# Altium integrated library Analog Devices Operational Amplifiers.IntLib: 2102 symbols (part 5 of 70)
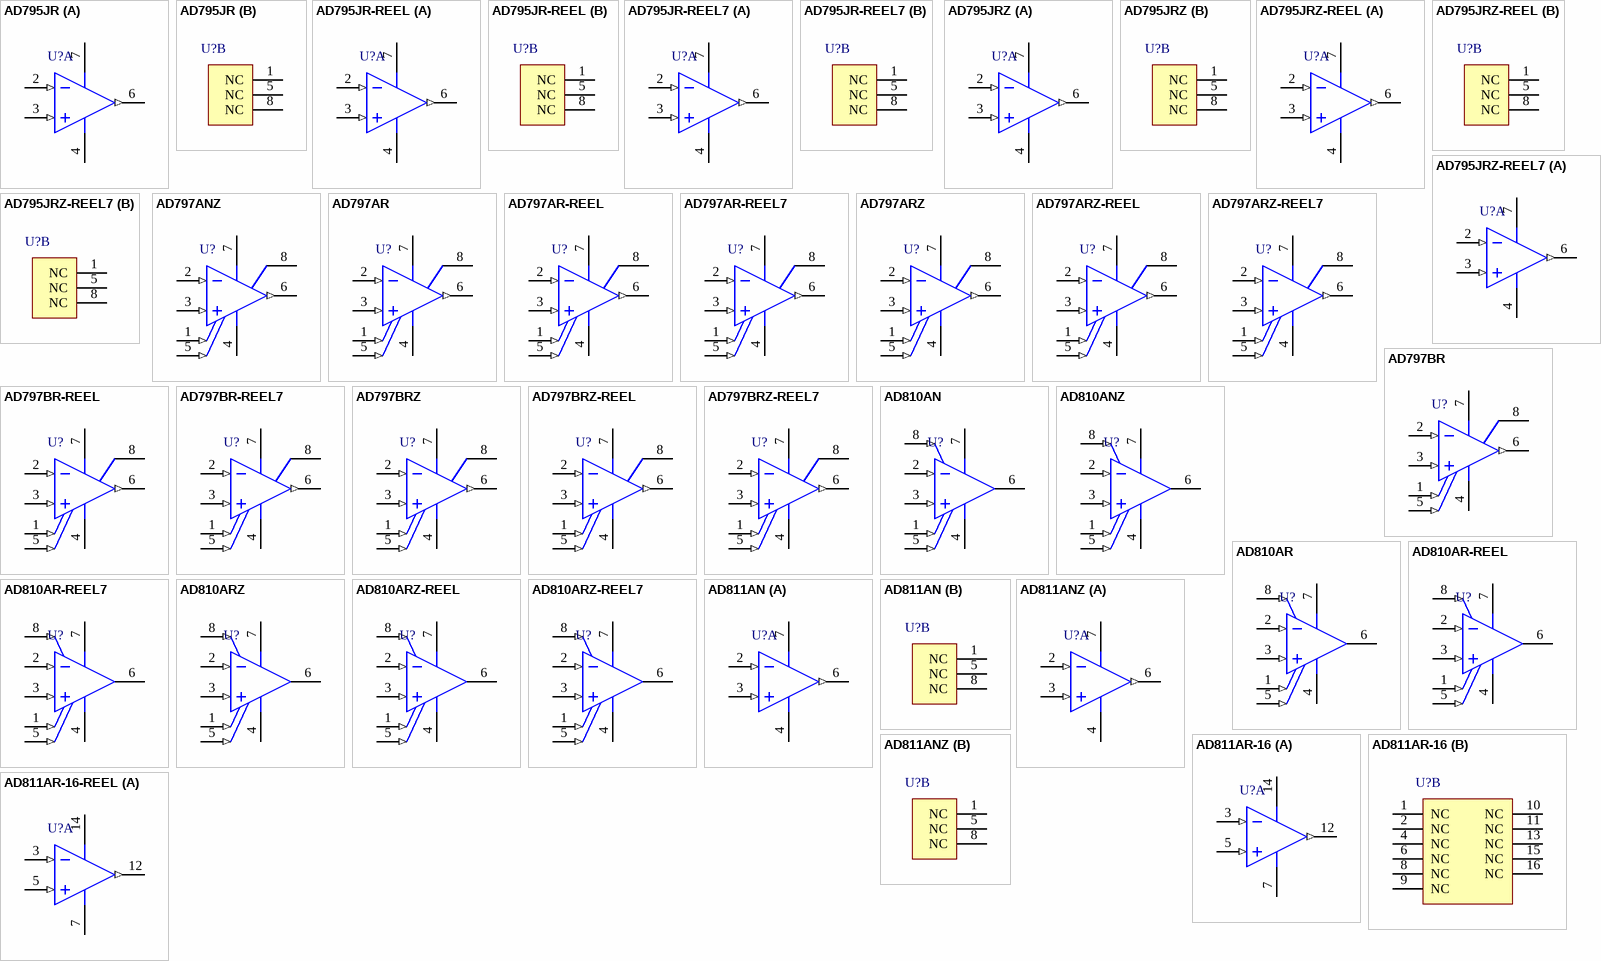
[diagram p118: symbols AD795JR to AD811AR-16-REEL]

## AD810ARZ-REEL
designator U?
Single Channel Low Power Operational Amplifier, 80 MHz BW, 1 KV/us SR, Industrial, 8-pin SOIC (R-8), Reel; Generic Part Number: AD810; Manufacturer: Analog Devices; PartNumber: AD810ARZ-REEL; Amplifiers Per Package: 1; Input Bias Current: 2uA; Input Offset Voltage: 1.5mV; Iq/Amp: 8mA; Slew Rate: 1KV/us; Small Signal Bandwidth: 80MHz; V Span Max: 36V; V Span Min: 5V; DatasheetVersion: Rev. A; PackageVersion: 060506-A; PackageReference: R-8; PackageDescription: 8-Pin Standard Small Outline Package, Body 3.9 x 4.9 mm, Pitch 1.27 mm; Supplier 1: Digi-Key; Supplier Part Number 1: AD810ARZ-REEL-ND; Supplier 2: Newark; Supplier Part Number 2: 59K6366; Mounting Technology: Surface Mount; Code_JEDEC: MS-012-AA; ComponentLink1Description: Manufacturer URL; ComponentLink1URL: http://www.analog.com/en/index.html; ComponentLink2Description: Datasheet; ComponentLink2URL: http://www.analog.com/static/imported-files/data_sheets/AD810.pdf; ComponentLink3Description: Package Specification; ComponentLink3URL: http://www.analog.com/static/imported-files/packages/PKG_PDF/SOIC_Narrow%20(R)/R_8.pdf
footprint ADI-R-8_N (SOIC, 8-Leads, Body 4.9x3.9mm, Pitch 1.27mm, IPC Medium Density)
footprint ADI-R-8_L (SOIC, 8-Leads, Body 4.9x3.9mm, Pitch 1.27mm, IPC High Density)
footprint ADI-R-8_M (SOIC, 8-Leads, Body 4.9x3.9mm, Pitch 1.27mm, IPC Low Density)
pins: 1 OFFSET NULL (in), 2 -IN (in), 3 +IN (in), 4 -VS (power), 5 OFFSET NULL (in), 6 OUT (hiz), 7 +VS (power), 8 ~{DISABLE} (in)

## AD810ARZ-REEL7
designator U?
Single Channel Low Power Operational Amplifier, 80 MHz BW, 1 KV/us SR, Industrial, 8-pin SOIC (R-8), Reel; Generic Part Number: AD810; Manufacturer: Analog Devices; PartNumber: AD810ARZ-REEL7; Amplifiers Per Package: 1; Input Bias Current: 2uA; Input Offset Voltage: 1.5mV; Iq/Amp: 8mA; Slew Rate: 1KV/us; Small Signal Bandwidth: 80MHz; V Span Max: 36V; V Span Min: 5V; DatasheetVersion: Rev. A; PackageVersion: 060506-A; PackageReference: R-8; PackageDescription: 8-Pin Standard Small Outline Package, Body 3.9 x 4.9 mm, Pitch 1.27 mm; Supplier 1: Digi-Key; Supplier Part Number 1: AD810ARZ-REEL7TR-ND; Supplier 2: Digi-Key; Supplier Part Number 2: AD810ARZ-REEL7CT-ND; Supplier 3: Digi-Key; Supplier Part Number 3: AD810ARZ-REEL7DKR-ND; Supplier 4: Newark; Supplier Part Number 4: 59K6367; Mounting Technology: Surface Mount; Code_JEDEC: MS-012-AA; ComponentLink1Description: Manufacturer URL; ComponentLink1URL: http://www.analog.com/en/index.html; ComponentLink2Description: Datasheet; ComponentLink2URL: http://www.analog.com/static/imported-files/data_sheets/AD810.pdf; ComponentLink3Description: Package Specification; ComponentLink3URL: http://www.analog.com/static/imported-files/packages/PKG_PDF/SOIC_Narrow%20(R)/R_8.pdf
footprint ADI-R-8_N (SOIC, 8-Leads, Body 4.9x3.9mm, Pitch 1.27mm, IPC Medium Density)
footprint ADI-R-8_L (SOIC, 8-Leads, Body 4.9x3.9mm, Pitch 1.27mm, IPC High Density)
footprint ADI-R-8_M (SOIC, 8-Leads, Body 4.9x3.9mm, Pitch 1.27mm, IPC Low Density)
pins: 1 OFFSET NULL (in), 2 -IN (in), 3 +IN (in), 4 -VS (power), 5 OFFSET NULL (in), 6 OUT (hiz), 7 +VS (power), 8 ~{DISABLE} (in)

## AD811AN
designator U?
Single Channel Low Distortion Operational Amplifier, 140 MHz BW, 2.5 KV/us SR, Industrial, 8-pin DIP (N-8), Tube; Generic Part Number: AD811; Manufacturer: Analog Devices; PartNumber: AD811AN; Amplifiers Per Package: 1; Input Bias Current: 2uA; Input Offset Voltage: 500uV; Iq/Amp: 16mA; Small Signal Bandwidth: 140MHz; V Span Max: 36V; V Span Min: 9V; DatasheetVersion: Rev. E; PackageVersion: 070606-A; PackageReference: N-8; PackageDescription: 8-Pin Plastic Dual In-Line Package, Row spacing 7.62 mm, Pitch 2.54 mm; Supplier 1: Digi-Key; Supplier Part Number 1: AD811AN-ND; Slew Rate: 2.5KV/us; Mounting Technology: Through Hole; Code_JEDEC: MS-001; ComponentLink1Description: Manufacturer URL; ComponentLink1URL: http://www.analog.com/en/index.html; ComponentLink2Description: Datasheet; ComponentLink2URL: http://www.analog.com/static/imported-files/data_sheets/AD811.pdf; ComponentLink3Description: Package Specification; ComponentLink3URL: http:/www.analog.com/static/imported-files/packages/PKG_PDF/PDIP(N)/N_8.pdf
footprint ADI-N-8 (DIP, 8-Leads, Body 9.59x6.6mm, Pitch 2.54mm)
part A pins: 2 -IN (in), 3 +IN (in), 4 -VS (power), 6 OUT (out), 7 +VS (power)
part B pins: 1 NC, 5 NC, 8 NC

## AD811ANZ
designator U?
Single Channel Low Distortion Operational Amplifier, 140 MHz BW, 2.5 KV/us SR, Industrial, 8-pin DIP (N-8), Tube; Generic Part Number: AD811; Manufacturer: Analog Devices; PartNumber: AD811ANZ; Amplifiers Per Package: 1; Input Bias Current: 2uA; Input Offset Voltage: 500uV; Iq/Amp: 16mA; Small Signal Bandwidth: 140MHz; V Span Max: 36V; V Span Min: 9V; DatasheetVersion: Rev. E; PackageVersion: 070606-A; PackageReference: N-8; PackageDescription: 8-Pin Plastic Dual In-Line Package, Row spacing 7.62 mm, Pitch 2.54 mm; Supplier 1: Digi-Key; Supplier Part Number 1: AD811ANZ-ND; Supplier 2: Farnell; Supplier Part Number 2: 9603786; Supplier 3: Newark; Supplier Part Number 3: 58K5191; Slew Rate: 2.5KV/us; Mounting Technology: Through Hole; Code_JEDEC: MS-001; ComponentLink1Description: Manufacturer URL; ComponentLink1URL: http://www.analog.com/en/index.html; ComponentLink2Description: Datasheet; ComponentLink2URL: http://www.analog.com/static/imported-files/data_sheets/AD811.pdf; ComponentLink3Description: Package Specification; ComponentLink3URL: http:/www.analog.com/static/imported-files/packages/PKG_PDF/PDIP(N)/N_8.pdf
footprint ADI-N-8 (DIP, 8-Leads, Body 9.59x6.6mm, Pitch 2.54mm)
part A pins: 2 -IN (in), 3 +IN (in), 4 -VS (power), 6 OUT (out), 7 +VS (power)
part B pins: 1 NC, 5 NC, 8 NC

## AD811AR-16
designator U?
Single Channel Low Distortion Operational Amplifier, 140 MHz BW, 2.5 KV/us SR, Industrial, 16-pin SOIC (RW-16), Tube; Generic Part Number: AD811; Manufacturer: Analog Devices; PartNumber: AD811AR-16; Amplifiers Per Package: 1; Input Bias Current: 2uA; Input Offset Voltage: 500uV; Iq/Amp: 16mA; Small Signal Bandwidth: 140MHz; V Span Max: 36V; V Span Min: 9V; DatasheetVersion: Rev. E; PackageVersion: 032707-B; PackageReference: RW-16; PackageDescription: 16-Pin Standard Small Outline Package, Body 10.3 x 7.5 mm, Pitch 1.27 mm; Supplier 1: Digi-Key; Supplier Part Number 1: AD811AR-16-ND; Slew Rate: 2.5KV/us; Mounting Technology: Surface Mount; Code_JEDEC: MS-013-AA; ComponentLink1Description: Manufacturer URL; ComponentLink1URL: http://www.analog.com/en/index.html; ComponentLink2Description: Datasheet; ComponentLink2URL: http://www.analog.com/static/imported-files/data_sheets/AD811.pdf; ComponentLink3Description: Package Specification; ComponentLink3URL: http://www.analog.com/static/imported-files/packages/PKG_PDF/SOIC_WIDE%20%28RW%29/RW_16.pdf
footprint ADI-RW-16_N (SOIC, 16-Leads, Body 10.3x7.5mm, Pitch 1.27mm,IPC Medium Density)
footprint ADI-RW-16_L (SOIC, 16-Leads, Body 10.3x7.5mm, Pitch 1.27mm, IPC High Density)
footprint ADI-RW-16_M (SOIC, 16-Leads, Body 10.3x7.5mm, Pitch 1.27mm, IPC Low Density)
part A pins: 3 -IN (in), 5 +IN (in), 7 -VS (power), 12 OUT (out), 14 +VS (power)
part B pins: 1 NC, 2 NC, 4 NC, 6 NC, 8 NC, 9 NC, 10 NC, 11 NC, 13 NC, 15 NC, 16 NC

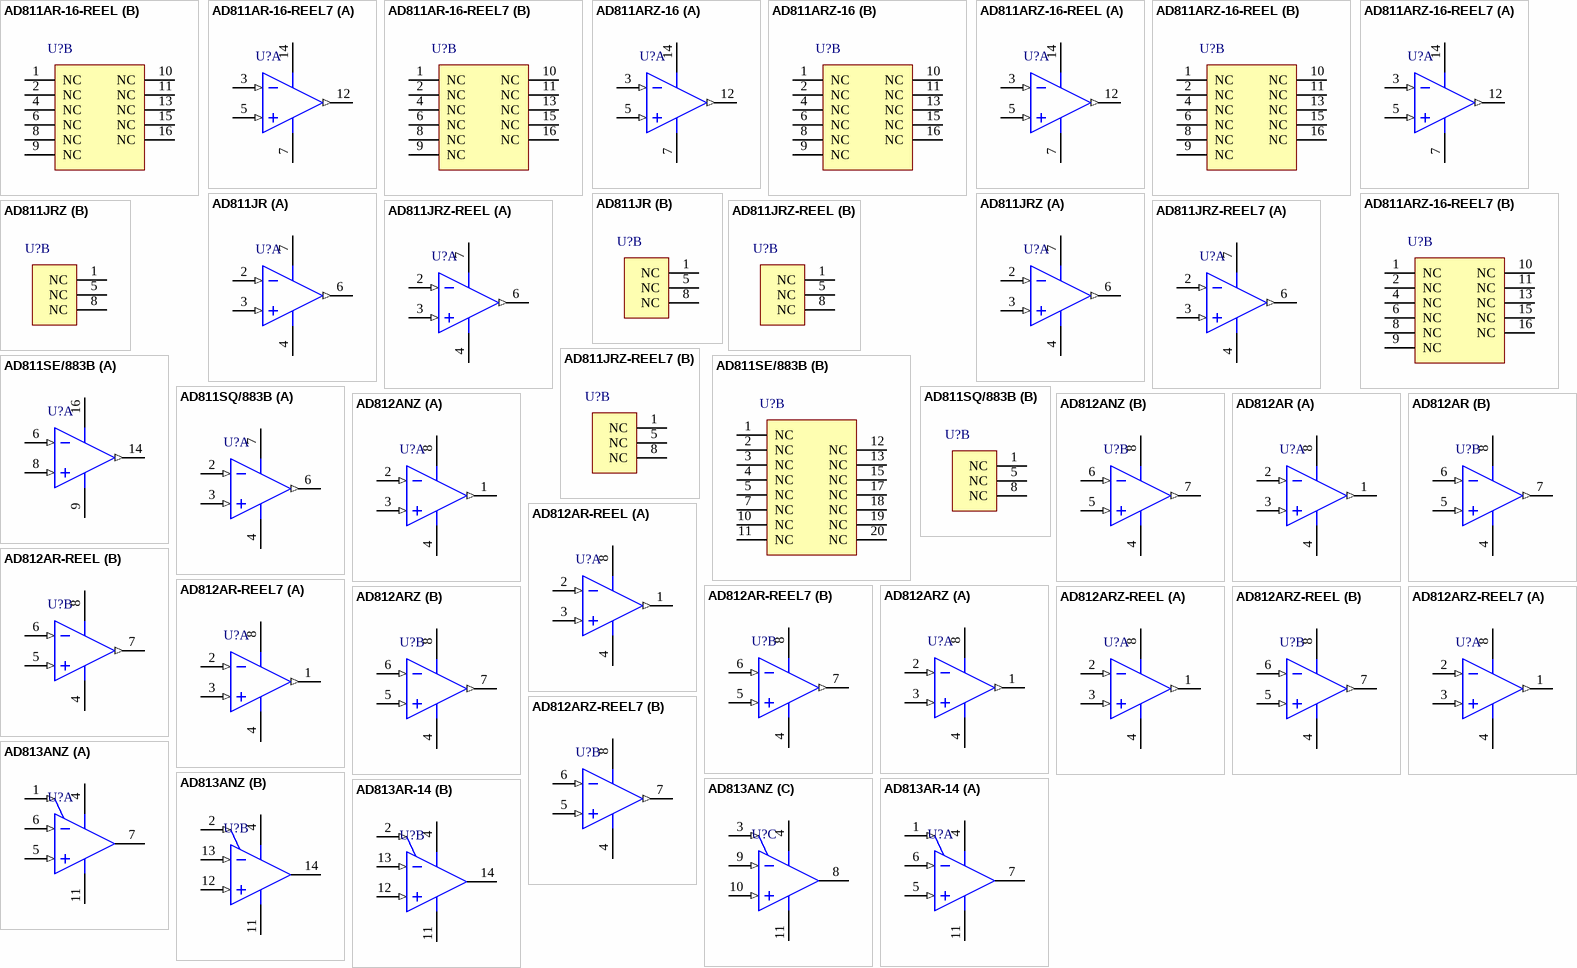
[diagram p7: symbols AD811AR-16-REEL to AD813AR-14]

## AD811AR-16-REEL
designator U?
Single Channel Low Distortion Operational Amplifier, 140 MHz BW, 2.5 KV/us SR, Industrial, 16-pin SOIC (RW-16), Reel; Generic Part Number: AD811; Manufacturer: Analog Devices; PartNumber: AD811AR-16-REEL; Amplifiers Per Package: 1; Input Bias Current: 2uA; Input Offset Voltage: 500uV; Iq/Amp: 16mA; Small Signal Bandwidth: 140MHz; V Span Max: 36V; V Span Min: 9V; DatasheetVersion: Rev. E; PackageVersion: 032707-B; PackageReference: RW-16; PackageDescription: 16-Pin Standard Small Outline Package, Body 10.3 x 7.5 mm, Pitch 1.27 mm; Supplier 1: Digi-Key; Supplier Part Number 1: AD811AR-16-REEL-ND; Supplier 2: Newark; Supplier Part Number 2: 09B6459; Slew Rate: 2.5KV/us; Mounting Technology: Surface Mount; Code_JEDEC: MS-013-AA; ComponentLink1Description: Manufacturer URL; ComponentLink1URL: http://www.analog.com/en/index.html; ComponentLink2Description: Datasheet; ComponentLink2URL: http://www.analog.com/static/imported-files/data_sheets/AD811.pdf; ComponentLink3Description: Package Specification; ComponentLink3URL: http://www.analog.com/static/imported-files/packages/PKG_PDF/SOIC_WIDE%20%28RW%29/RW_16.pdf
footprint ADI-RW-16_N (SOIC, 16-Leads, Body 10.3x7.5mm, Pitch 1.27mm,IPC Medium Density)
footprint ADI-RW-16_L (SOIC, 16-Leads, Body 10.3x7.5mm, Pitch 1.27mm, IPC High Density)
footprint ADI-RW-16_M (SOIC, 16-Leads, Body 10.3x7.5mm, Pitch 1.27mm, IPC Low Density)
part A pins: 3 -IN (in), 5 +IN (in), 7 -VS (power), 12 OUT (out), 14 +VS (power)
part B pins: 1 NC, 2 NC, 4 NC, 6 NC, 8 NC, 9 NC, 10 NC, 11 NC, 13 NC, 15 NC, 16 NC

## AD811AR-16-REEL7
designator U?
Single Channel Low Distortion Operational Amplifier, 140 MHz BW, 2.5 KV/us SR, Industrial, 16-pin SOIC (RW-16), Reel; Generic Part Number: AD811; Manufacturer: Analog Devices; PartNumber: AD811AR-16-REEL7; Amplifiers Per Package: 1; Input Bias Current: 2uA; Input Offset Voltage: 500uV; Iq/Amp: 16mA; Small Signal Bandwidth: 140MHz; V Span Max: 36V; V Span Min: 9V; DatasheetVersion: Rev. E; PackageVersion: 032707-B; PackageReference: RW-16; PackageDescription: 16-Pin Standard Small Outline Package, Body 10.3 x 7.5 mm, Pitch 1.27 mm; Supplier 1: Digi-Key; Supplier Part Number 1: AD811AR-16-REEL7-ND; Slew Rate: 2.5KV/us; Mounting Technology: Surface Mount; Code_JEDEC: MS-013-AA; ComponentLink1Description: Manufacturer URL; ComponentLink1URL: http://www.analog.com/en/index.html; ComponentLink2Description: Datasheet; ComponentLink2URL: http://www.analog.com/static/imported-files/data_sheets/AD811.pdf; ComponentLink3Description: Package Specification; ComponentLink3URL: http://www.analog.com/static/imported-files/packages/PKG_PDF/SOIC_WIDE%20%28RW%29/RW_16.pdf
footprint ADI-RW-16_N (SOIC, 16-Leads, Body 10.3x7.5mm, Pitch 1.27mm,IPC Medium Density)
footprint ADI-RW-16_L (SOIC, 16-Leads, Body 10.3x7.5mm, Pitch 1.27mm, IPC High Density)
footprint ADI-RW-16_M (SOIC, 16-Leads, Body 10.3x7.5mm, Pitch 1.27mm, IPC Low Density)
part A pins: 3 -IN (in), 5 +IN (in), 7 -VS (power), 12 OUT (out), 14 +VS (power)
part B pins: 1 NC, 2 NC, 4 NC, 6 NC, 8 NC, 9 NC, 10 NC, 11 NC, 13 NC, 15 NC, 16 NC

## AD811ARZ-16
designator U?
Single Channel Low Distortion Operational Amplifier, 140 MHz BW, 2.5 KV/us SR, Industrial, 16-pin SOIC (RW-16), Tube; Generic Part Number: AD811; Manufacturer: Analog Devices; PartNumber: AD811ARZ-16; Amplifiers Per Package: 1; Input Bias Current: 2uA; Input Offset Voltage: 500uV; Iq/Amp: 16mA; Small Signal Bandwidth: 140MHz; V Span Max: 36V; V Span Min: 9V; DatasheetVersion: Rev. E; PackageVersion: 032707-B; PackageReference: RW-16; PackageDescription: 16-Pin Standard Small Outline Package, Body 10.3 x 7.5 mm, Pitch 1.27 mm; Supplier 1: Digi-Key; Supplier Part Number 1: AD811ARZ-16-ND; Supplier 2: Farnell; Supplier Part Number 2: 2074888; Supplier 3: Newark; Supplier Part Number 3: 76T1825; Supplier 4: Newark; Supplier Part Number 4: 59K6371; Slew Rate: 2.5KV/us; Mounting Technology: Surface Mount; Code_JEDEC: MS-013-AA; ComponentLink1Description: Manufacturer URL; ComponentLink1URL: http://www.analog.com/en/index.html; ComponentLink2Description: Datasheet; ComponentLink2URL: http://www.analog.com/static/imported-files/data_sheets/AD811.pdf; ComponentLink3Description: Package Specification; ComponentLink3URL: http://www.analog.com/static/imported-files/packages/PKG_PDF/SOIC_WIDE%20%28RW%29/RW_16.pdf
footprint ADI-RW-16_N (SOIC, 16-Leads, Body 10.3x7.5mm, Pitch 1.27mm,IPC Medium Density)
footprint ADI-RW-16_L (SOIC, 16-Leads, Body 10.3x7.5mm, Pitch 1.27mm, IPC High Density)
footprint ADI-RW-16_M (SOIC, 16-Leads, Body 10.3x7.5mm, Pitch 1.27mm, IPC Low Density)
part A pins: 3 -IN (in), 5 +IN (in), 7 -VS (power), 12 OUT (out), 14 +VS (power)
part B pins: 1 NC, 2 NC, 4 NC, 6 NC, 8 NC, 9 NC, 10 NC, 11 NC, 13 NC, 15 NC, 16 NC

## AD811ARZ-16-REEL
designator U?
Single Channel Low Distortion Operational Amplifier, 140 MHz BW, 2.5 KV/us SR, Industrial, 16-pin SOIC (RW-16), Reel; Generic Part Number: AD811; Manufacturer: Analog Devices; PartNumber: AD811ARZ-16-REEL; Amplifiers Per Package: 1; Input Bias Current: 2uA; Input Offset Voltage: 500uV; Iq/Amp: 16mA; Small Signal Bandwidth: 140MHz; V Span Max: 36V; V Span Min: 9V; DatasheetVersion: Rev. E; PackageVersion: 032707-B; PackageReference: RW-16; PackageDescription: 16-Pin Standard Small Outline Package, Body 10.3 x 7.5 mm, Pitch 1.27 mm; Supplier 1: Digi-Key; Supplier Part Number 1: AD811ARZ-16-REEL-ND; Slew Rate: 2.5KV/us; Mounting Technology: Surface Mount; Code_JEDEC: MS-013-AA; ComponentLink1Description: Manufacturer URL; ComponentLink1URL: http://www.analog.com/en/index.html; ComponentLink2Description: Datasheet; ComponentLink2URL: http://www.analog.com/static/imported-files/data_sheets/AD811.pdf; ComponentLink3Description: Package Specification; ComponentLink3URL: http://www.analog.com/static/imported-files/packages/PKG_PDF/SOIC_WIDE%20%28RW%29/RW_16.pdf
footprint ADI-RW-16_N (SOIC, 16-Leads, Body 10.3x7.5mm, Pitch 1.27mm,IPC Medium Density)
footprint ADI-RW-16_L (SOIC, 16-Leads, Body 10.3x7.5mm, Pitch 1.27mm, IPC High Density)
footprint ADI-RW-16_M (SOIC, 16-Leads, Body 10.3x7.5mm, Pitch 1.27mm, IPC Low Density)
part A pins: 3 -IN (in), 5 +IN (in), 7 -VS (power), 12 OUT (out), 14 +VS (power)
part B pins: 1 NC, 2 NC, 4 NC, 6 NC, 8 NC, 9 NC, 10 NC, 11 NC, 13 NC, 15 NC, 16 NC

## AD811ARZ-16-REEL7
designator U?
Single Channel Low Distortion Operational Amplifier, 140 MHz BW, 2.5 KV/us SR, Industrial, 16-pin SOIC (RW-16), Reel; Generic Part Number: AD811; Manufacturer: Analog Devices; PartNumber: AD811ARZ-16-REEL7; Amplifiers Per Package: 1; Input Bias Current: 2uA; Input Offset Voltage: 500uV; Iq/Amp: 16mA; Small Signal Bandwidth: 140MHz; V Span Max: 36V; V Span Min: 9V; DatasheetVersion: Rev. E; PackageVersion: 032707-B; PackageReference: RW-16; PackageDescription: 16-Pin Standard Small Outline Package, Body 10.3 x 7.5 mm, Pitch 1.27 mm; Supplier 1: Digi-Key; Supplier Part Number 1: AD811ARZ-16-REEL7-ND; Slew Rate: 2.5KV/us; Mounting Technology: Surface Mount; Code_JEDEC: MS-013-AA; ComponentLink1Description: Manufacturer URL; ComponentLink1URL: http://www.analog.com/en/index.html; ComponentLink2Description: Datasheet; ComponentLink2URL: http://www.analog.com/static/imported-files/data_sheets/AD811.pdf; ComponentLink3Description: Package Specification; ComponentLink3URL: http://www.analog.com/static/imported-files/packages/PKG_PDF/SOIC_WIDE%20%28RW%29/RW_16.pdf
footprint ADI-RW-16_N (SOIC, 16-Leads, Body 10.3x7.5mm, Pitch 1.27mm,IPC Medium Density)
footprint ADI-RW-16_L (SOIC, 16-Leads, Body 10.3x7.5mm, Pitch 1.27mm, IPC High Density)
footprint ADI-RW-16_M (SOIC, 16-Leads, Body 10.3x7.5mm, Pitch 1.27mm, IPC Low Density)
part A pins: 3 -IN (in), 5 +IN (in), 7 -VS (power), 12 OUT (out), 14 +VS (power)
part B pins: 1 NC, 2 NC, 4 NC, 6 NC, 8 NC, 9 NC, 10 NC, 11 NC, 13 NC, 15 NC, 16 NC

## AD811JR
designator U?
Single Channel Low Distortion Operational Amplifier, 140 MHz BW, 2.5 KV/us SR, Commercial, 8-pin SOIC (R-8), Tube; Generic Part Number: AD811; Manufacturer: Analog Devices; PartNumber: AD811JR; Amplifiers Per Package: 1; Input Bias Current: 2uA; Input Offset Voltage: 500uV; Iq/Amp: 16mA; Small Signal Bandwidth: 140MHz; V Span Max: 36V; V Span Min: 9V; DatasheetVersion: Rev. E; PackageVersion: 060506-A; PackageReference: R-8; PackageDescription: 8-Pin Standard Small Outline Package, Body 3.9 x 4.9 mm, Pitch 1.27 mm; Supplier 1: Digi-Key; Supplier Part Number 1: AD811JR-ND; Slew Rate: 2.5KV/us; Mounting Technology: Surface Mount; Code_JEDEC: MS-012-AA; ComponentLink1Description: Manufacturer URL; ComponentLink1URL: http://www.analog.com/en/index.html; ComponentLink2Description: Datasheet; ComponentLink2URL: http://www.analog.com/static/imported-files/data_sheets/AD811.pdf; ComponentLink3Description: Package Specification; ComponentLink3URL: http://www.analog.com/static/imported-files/packages/PKG_PDF/SOIC_Narrow%20(R)/R_8.pdf
footprint ADI-R-8_N (SOIC, 8-Leads, Body 4.9x3.9mm, Pitch 1.27mm, IPC Medium Density)
footprint ADI-R-8_L (SOIC, 8-Leads, Body 4.9x3.9mm, Pitch 1.27mm, IPC High Density)
footprint ADI-R-8_M (SOIC, 8-Leads, Body 4.9x3.9mm, Pitch 1.27mm, IPC Low Density)
part A pins: 2 -IN (in), 3 +IN (in), 4 -VS (power), 6 OUT (out), 7 +VS (power)
part B pins: 1 NC, 5 NC, 8 NC

## AD811JRZ
designator U?
Single Channel Low Distortion Operational Amplifier, 140 MHz BW, 2.5 KV/us SR, Commercial, 8-pin SOIC (R-8), Tube; Generic Part Number: AD811; Manufacturer: Analog Devices; PartNumber: AD811JRZ; Amplifiers Per Package: 1; Input Bias Current: 2uA; Input Offset Voltage: 500uV; Iq/Amp: 16mA; Small Signal Bandwidth: 140MHz; V Span Max: 36V; V Span Min: 9V; DatasheetVersion: Rev. E; PackageVersion: 060506-A; PackageReference: R-8; PackageDescription: 8-Pin Standard Small Outline Package, Body 3.9 x 4.9 mm, Pitch 1.27 mm; Supplier 1: Digi-Key; Supplier Part Number 1: AD811JRZ-ND; Supplier 2: Farnell; Supplier Part Number 2: 9426485; Supplier 3: Newark; Supplier Part Number 3: 82H2980; Slew Rate: 2.5KV/us; Mounting Technology: Surface Mount; Code_JEDEC: MS-012-AA; ComponentLink1Description: Manufacturer URL; ComponentLink1URL: http://www.analog.com/en/index.html; ComponentLink2Description: Datasheet; ComponentLink2URL: http://www.analog.com/static/imported-files/data_sheets/AD811.pdf; ComponentLink3Description: Package Specification; ComponentLink3URL: http://www.analog.com/static/imported-files/packages/PKG_PDF/SOIC_Narrow%20(R)/R_8.pdf
footprint ADI-R-8_N (SOIC, 8-Leads, Body 4.9x3.9mm, Pitch 1.27mm, IPC Medium Density)
footprint ADI-R-8_L (SOIC, 8-Leads, Body 4.9x3.9mm, Pitch 1.27mm, IPC High Density)
footprint ADI-R-8_M (SOIC, 8-Leads, Body 4.9x3.9mm, Pitch 1.27mm, IPC Low Density)
part A pins: 2 -IN (in), 3 +IN (in), 4 -VS (power), 6 OUT (out), 7 +VS (power)
part B pins: 1 NC, 5 NC, 8 NC

## AD811JRZ-REEL
designator U?
Single Channel Low Distortion Operational Amplifier, 140 MHz BW, 2.5 KV/us SR, Commercial, 8-pin SOIC (R-8), Reel; Generic Part Number: AD811; Manufacturer: Analog Devices; PartNumber: AD811JRZ-REEL; Amplifiers Per Package: 1; Input Bias Current: 2uA; Input Offset Voltage: 500uV; Iq/Amp: 16mA; Small Signal Bandwidth: 140MHz; V Span Max: 36V; V Span Min: 9V; DatasheetVersion: Rev. E; PackageVersion: 060506-A; PackageReference: R-8; PackageDescription: 8-Pin Standard Small Outline Package, Body 3.9 x 4.9 mm, Pitch 1.27 mm; Supplier 1: Digi-Key; Supplier Part Number 1: AD811JRZ-REEL-ND; Supplier 2: Newark; Supplier Part Number 2: 59K6375; Slew Rate: 2.5KV/us; Mounting Technology: Surface Mount; Code_JEDEC: MS-012-AA; ComponentLink1Description: Manufacturer URL; ComponentLink1URL: http://www.analog.com/en/index.html; ComponentLink2Description: Datasheet; ComponentLink2URL: http://www.analog.com/static/imported-files/data_sheets/AD811.pdf; ComponentLink3Description: Package Specification; ComponentLink3URL: http://www.analog.com/static/imported-files/packages/PKG_PDF/SOIC_Narrow%20(R)/R_8.pdf
footprint ADI-R-8_N (SOIC, 8-Leads, Body 4.9x3.9mm, Pitch 1.27mm, IPC Medium Density)
footprint ADI-R-8_L (SOIC, 8-Leads, Body 4.9x3.9mm, Pitch 1.27mm, IPC High Density)
footprint ADI-R-8_M (SOIC, 8-Leads, Body 4.9x3.9mm, Pitch 1.27mm, IPC Low Density)
part A pins: 2 -IN (in), 3 +IN (in), 4 -VS (power), 6 OUT (out), 7 +VS (power)
part B pins: 1 NC, 5 NC, 8 NC

## AD811JRZ-REEL7
designator U?
Single Channel Low Distortion Operational Amplifier, 140 MHz BW, 2.5 KV/us SR, Commercial, 8-pin SOIC (R-8), Reel; Generic Part Number: AD811; Manufacturer: Analog Devices; PartNumber: AD811JRZ-REEL7; Amplifiers Per Package: 1; Input Bias Current: 2uA; Input Offset Voltage: 500uV; Iq/Amp: 16mA; Small Signal Bandwidth: 140MHz; V Span Max: 36V; V Span Min: 9V; DatasheetVersion: Rev. E; PackageVersion: 060506-A; PackageReference: R-8; PackageDescription: 8-Pin Standard Small Outline Package, Body 3.9 x 4.9 mm, Pitch 1.27 mm; Supplier 1: Digi-Key; Supplier Part Number 1: AD811JRZ-REEL7-ND; Supplier 2: Newark; Supplier Part Number 2: 59K6376; Slew Rate: 2.5KV/us; Mounting Technology: Surface Mount; Code_JEDEC: MS-012-AA; ComponentLink1Description: Manufacturer URL; ComponentLink1URL: http://www.analog.com/en/index.html; ComponentLink2Description: Datasheet; ComponentLink2URL: http://www.analog.com/static/imported-files/data_sheets/AD811.pdf; ComponentLink3Description: Package Specification; ComponentLink3URL: http://www.analog.com/static/imported-files/packages/PKG_PDF/SOIC_Narrow%20(R)/R_8.pdf
footprint ADI-R-8_N (SOIC, 8-Leads, Body 4.9x3.9mm, Pitch 1.27mm, IPC Medium Density)
footprint ADI-R-8_L (SOIC, 8-Leads, Body 4.9x3.9mm, Pitch 1.27mm, IPC High Density)
footprint ADI-R-8_M (SOIC, 8-Leads, Body 4.9x3.9mm, Pitch 1.27mm, IPC Low Density)
part A pins: 2 -IN (in), 3 +IN (in), 4 -VS (power), 6 OUT (out), 7 +VS (power)
part B pins: 1 NC, 5 NC, 8 NC

## AD811SE/883B
designator U?
Single Channel Low Distortion Operational Amplifier, 140 MHz BW, 2.5 KV/us SR, Military, 20-pin LCC (E-20A), Tube; Generic Part Number: AD811; Manufacturer: Analog Devices; PartNumber: AD811SE/883B; Amplifiers Per Package: 1; Input Bias Current: 2uA; Input Offset Voltage: 500uV; Iq/Amp: 16mA; Small Signal Bandwidth: 140MHz; V Span Max: 36V; V Span Min: 9V; DatasheetVersion: Rev. E; PackageVersion: Rev. C; PackageReference: E-20A; PackageDescription: 20-Pin Terminal Ceramic Leadless Chip Carrier, Body 8.89 x 8.89 mm, Pitch 1.27 mm; Supplier 1: Digi-Key; Supplier Part Number 1: AD811SE/883B-ND; Slew Rate: 2.5KV/us; Mounting Technology: Surface Mount; ComponentLink1Description: Manufacturer URL; ComponentLink1URL: http://www.analog.com/en/index.html; ComponentLink2Description: Datasheet; ComponentLink2URL: http://www.analog.com/static/imported-files/data_sheets/AD811.pdf; ComponentLink3Description: Package Specification; ComponentLink3URL: http://www.analog.com/static/imported-files/data_sheets/AD827.pdf
footprint ADI-E-20A_N (LCC, 20-Leads, Body 8.9x8.9mm, Pitch 1.27mm, IPC Medium Density)
footprint ADI-E-20A_L (LCC, 20-Leads, Body 8.9x8.9mm, Pitch 1.27mm, IPC High Density)
footprint ADI-E-20A_M (LCC, 20-Leads, Body 8.9x8.9mm, Pitch 1.27mm, IPC Low Density)
part A pins: 6 -IN (in), 8 +IN (in), 9 -VS (power), 14 OUT (out), 16 +VS (power)
part B pins: 1 NC, 2 NC, 3 NC, 4 NC, 5 NC, 7 NC, 10 NC, 11 NC, 12 NC, 13 NC, 15 NC, 17 NC, 18 NC, 19 NC, 20 NC

## AD811SQ/883B
designator U?
Single Channel Low Distortion Operational Amplifier, 140 MHz BW, 2.5 KV/us SR, Military, 8-pin DIP (Q-8), Tube; Generic Part Number: AD811; Manufacturer: Analog Devices; PartNumber: AD811SQ/883B; Amplifiers Per Package: 1; Input Bias Current: 2uA; Input Offset Voltage: 500uV; Iq/Amp: 16mA; Small Signal Bandwidth: 140MHz; V Span Max: 36V; V Span Min: 9V; DatasheetVersion: Rev. E; PackageReference: Q-8; PackageDescription: 8-Pin Ceramic Dual In-Line Package, Row spacing 7.62 mm, Pitch 2.54 mm; Supplier 1: Digi-Key; Supplier Part Number 1: AD811SQ/883B-ND; Supplier 2: Farnell; Supplier Part Number 2: 1464857; Slew Rate: 2.5KV/us; Mounting Technology: Through Hole; ComponentLink1Description: Manufacturer URL; ComponentLink1URL: http://www.analog.com/en/index.html; ComponentLink2Description: Datasheet; ComponentLink2URL: http://www.analog.com/static/imported-files/data_sheets/AD811.pdf; ComponentLink3Description: Package Specification; ComponentLink3URL: http://www.analog.com/static/imported-files/packages/3925655241313314758Q_8.pdf
footprint ADI-Q-8 (DIP, 8-Leads, Body 10.29x6.73mm, Pitch 2.54mm)
part A pins: 2 -IN (in), 3 +IN (in), 4 -VS (power), 6 OUT (out), 7 +VS (power)
part B pins: 1 NC, 5 NC, 8 NC

## AD812ANZ
designator U?
Double Channel Low Power Operational Amplifier, 145 MHz BW, 425 V/us SR, Industrial, 8-pin DIP (N-8), Tube; Generic Part Number: AD812; Manufacturer: Analog Devices; PartNumber: AD812ANZ; Amplifiers Per Package: 2; Input Bias Current: 300nA; Input Offset Voltage: 2mV; Iq/Amp: 5.5mA; Small Signal Bandwidth: 145MHz; V Span Max: 36V; V Span Min: 2.4V; DatasheetVersion: Rev. B; PackageVersion: 070606-A; PackageReference: N-8; PackageDescription: 8-Pin Plastic Dual In-Line Package, Row spacing 7.62 mm, Pitch 2.54 mm; Supplier 1: Digi-Key; Supplier Part Number 1: AD812ANZ-ND; Supplier 2: Farnell; Supplier Part Number 2: 1424069; Supplier 3: Newark; Supplier Part Number 3: 59K6382; Slew Rate: 425V/us; Mounting Technology: Through Hole; Code_JEDEC: MS-001; ComponentLink1Description: Manufacturer URL; ComponentLink1URL: http://www.analog.com/en/index.html; ComponentLink2Description: Datasheet; ComponentLink2URL: http://www.analog.com/static/imported-files/data_sheets/AD812.pdf; ComponentLink3Description: Package Specification; ComponentLink3URL: http:/www.analog.com/static/imported-files/packages/PKG_PDF/PDIP(N)/N_8.pdf
footprint ADI-N-8 (DIP, 8-Leads, Body 9.59x6.6mm, Pitch 2.54mm)
pins on every part: 4 -V (power), 8 +V (power)
part A pins: 1 OUT 1 (out), 2 -IN 1 (in), 3 +IN 1 (in)
part B pins: 5 +IN 2 (in), 6 -IN 2 (in), 7 OUT 2 (out)

## AD812AR
designator U?
Double Channel Low Power Operational Amplifier, 145 MHz BW, 425 V/us SR, Industrial, 8-pin SOIC (R-8), Tube; Generic Part Number: AD812; Manufacturer: Analog Devices; PartNumber: AD812AR; Amplifiers Per Package: 2; Input Bias Current: 300nA; Input Offset Voltage: 2mV; Iq/Amp: 5.5mA; Small Signal Bandwidth: 145MHz; V Span Max: 36V; V Span Min: 2.4V; DatasheetVersion: Rev. B; PackageVersion: 060506-A; PackageReference: R-8; PackageDescription: 8-Pin Standard Small Outline Package, Body 3.9 x 4.9 mm, Pitch 1.27 mm; Supplier 1: Digi-Key; Supplier Part Number 1: AD812AR-ND; Slew Rate: 425V/us; Mounting Technology: Surface Mount; Code_JEDEC: MS-012-AA; ComponentLink1Description: Manufacturer URL; ComponentLink1URL: http://www.analog.com/en/index.html; ComponentLink2Description: Datasheet; ComponentLink2URL: http://www.analog.com/static/imported-files/data_sheets/AD812.pdf; ComponentLink3Description: Package Specification; ComponentLink3URL: http://www.analog.com/static/imported-files/packages/PKG_PDF/SOIC_Narrow%20(R)/R_8.pdf
footprint ADI-R-8_N (SOIC, 8-Leads, Body 4.9x3.9mm, Pitch 1.27mm, IPC Medium Density)
footprint ADI-R-8_L (SOIC, 8-Leads, Body 4.9x3.9mm, Pitch 1.27mm, IPC High Density)
footprint ADI-R-8_M (SOIC, 8-Leads, Body 4.9x3.9mm, Pitch 1.27mm, IPC Low Density)
pins on every part: 4 -V (power), 8 +V (power)
part A pins: 1 OUT 1 (out), 2 -IN 1 (in), 3 +IN 1 (in)
part B pins: 5 +IN 2 (in), 6 -IN 2 (in), 7 OUT 2 (out)

## AD812AR-REEL
designator U?
Double Channel Low Power Operational Amplifier, 145 MHz BW, 425 V/us SR, Industrial, 8-pin SOIC (R-8), Reel; Generic Part Number: AD812; Manufacturer: Analog Devices; PartNumber: AD812AR-REEL; Amplifiers Per Package: 2; Input Bias Current: 300nA; Input Offset Voltage: 2mV; Iq/Amp: 5.5mA; Small Signal Bandwidth: 145MHz; V Span Max: 36V; V Span Min: 2.4V; DatasheetVersion: Rev. B; PackageVersion: 060506-A; PackageReference: R-8; PackageDescription: 8-Pin Standard Small Outline Package, Body 3.9 x 4.9 mm, Pitch 1.27 mm; Supplier 1: Digi-Key; Supplier Part Number 1: AD812AR-REEL-ND; Supplier 2: Newark; Supplier Part Number 2: 09B6465; Slew Rate: 425V/us; Mounting Technology: Surface Mount; Code_JEDEC: MS-012-AA; ComponentLink1Description: Manufacturer URL; ComponentLink1URL: http://www.analog.com/en/index.html; ComponentLink2Description: Datasheet; ComponentLink2URL: http://www.analog.com/static/imported-files/data_sheets/AD812.pdf; ComponentLink3Description: Package Specification; ComponentLink3URL: http://www.analog.com/static/imported-files/packages/PKG_PDF/SOIC_Narrow%20(R)/R_8.pdf
footprint ADI-R-8_N (SOIC, 8-Leads, Body 4.9x3.9mm, Pitch 1.27mm, IPC Medium Density)
footprint ADI-R-8_L (SOIC, 8-Leads, Body 4.9x3.9mm, Pitch 1.27mm, IPC High Density)
footprint ADI-R-8_M (SOIC, 8-Leads, Body 4.9x3.9mm, Pitch 1.27mm, IPC Low Density)
pins on every part: 4 -V (power), 8 +V (power)
part A pins: 1 OUT 1 (out), 2 -IN 1 (in), 3 +IN 1 (in)
part B pins: 5 +IN 2 (in), 6 -IN 2 (in), 7 OUT 2 (out)

## AD812AR-REEL7
designator U?
Double Channel Low Power Operational Amplifier, 145 MHz BW, 425 V/us SR, Industrial, 8-pin SOIC (R-8), Reel; Generic Part Number: AD812; Manufacturer: Analog Devices; PartNumber: AD812AR-REEL7; Amplifiers Per Package: 2; Input Bias Current: 300nA; Input Offset Voltage: 2mV; Iq/Amp: 5.5mA; Small Signal Bandwidth: 145MHz; V Span Max: 36V; V Span Min: 2.4V; DatasheetVersion: Rev. B; PackageVersion: 060506-A; PackageReference: R-8; PackageDescription: 8-Pin Standard Small Outline Package, Body 3.9 x 4.9 mm, Pitch 1.27 mm; Supplier 1: Digi-Key; Supplier Part Number 1: AD812AR-REEL7-ND; Supplier 2: Newark; Supplier Part Number 2: 09B6466; Slew Rate: 425V/us; Mounting Technology: Surface Mount; Code_JEDEC: MS-012-AA; ComponentLink1Description: Manufacturer URL; ComponentLink1URL: http://www.analog.com/en/index.html; ComponentLink2Description: Datasheet; ComponentLink2URL: http://www.analog.com/static/imported-files/data_sheets/AD812.pdf; ComponentLink3Description: Package Specification; ComponentLink3URL: http://www.analog.com/static/imported-files/packages/PKG_PDF/SOIC_Narrow%20(R)/R_8.pdf
footprint ADI-R-8_N (SOIC, 8-Leads, Body 4.9x3.9mm, Pitch 1.27mm, IPC Medium Density)
footprint ADI-R-8_L (SOIC, 8-Leads, Body 4.9x3.9mm, Pitch 1.27mm, IPC High Density)
footprint ADI-R-8_M (SOIC, 8-Leads, Body 4.9x3.9mm, Pitch 1.27mm, IPC Low Density)
pins on every part: 4 -V (power), 8 +V (power)
part A pins: 1 OUT 1 (out), 2 -IN 1 (in), 3 +IN 1 (in)
part B pins: 5 +IN 2 (in), 6 -IN 2 (in), 7 OUT 2 (out)

## AD812ARZ
designator U?
Double Channel Low Power Operational Amplifier, 145 MHz BW, 425 V/us SR, Industrial, 8-pin SOIC (R-8), Tube; Generic Part Number: AD812; Manufacturer: Analog Devices; PartNumber: AD812ARZ; Amplifiers Per Package: 2; Input Bias Current: 300nA; Input Offset Voltage: 2mV; Iq/Amp: 5.5mA; Small Signal Bandwidth: 145MHz; V Span Max: 36V; V Span Min: 2.4V; DatasheetVersion: Rev. B; PackageVersion: 060506-A; PackageReference: R-8; PackageDescription: 8-Pin Standard Small Outline Package, Body 3.9 x 4.9 mm, Pitch 1.27 mm; Supplier 1: Digi-Key; Supplier Part Number 1: AD812ARZ-ND; Supplier 2: Farnell; Supplier Part Number 2: 1660989; Supplier 3: Newark; Supplier Part Number 3: 19M8884; Slew Rate: 425V/us; Mounting Technology: Surface Mount; Code_JEDEC: MS-012-AA; ComponentLink1Description: Manufacturer URL; ComponentLink1URL: http://www.analog.com/en/index.html; ComponentLink2Description: Datasheet; ComponentLink2URL: http://www.analog.com/static/imported-files/data_sheets/AD812.pdf; ComponentLink3Description: Package Specification; ComponentLink3URL: http://www.analog.com/static/imported-files/packages/PKG_PDF/SOIC_Narrow%20(R)/R_8.pdf
footprint ADI-R-8_N (SOIC, 8-Leads, Body 4.9x3.9mm, Pitch 1.27mm, IPC Medium Density)
footprint ADI-R-8_L (SOIC, 8-Leads, Body 4.9x3.9mm, Pitch 1.27mm, IPC High Density)
footprint ADI-R-8_M (SOIC, 8-Leads, Body 4.9x3.9mm, Pitch 1.27mm, IPC Low Density)
pins on every part: 4 -V (power), 8 +V (power)
part A pins: 1 OUT 1 (out), 2 -IN 1 (in), 3 +IN 1 (in)
part B pins: 5 +IN 2 (in), 6 -IN 2 (in), 7 OUT 2 (out)

## AD812ARZ-REEL
designator U?
Double Channel Low Power Operational Amplifier, 145 MHz BW, 425 V/us SR, Industrial, 8-pin SOIC (R-8), Reel; Generic Part Number: AD812; Manufacturer: Analog Devices; PartNumber: AD812ARZ-REEL; Amplifiers Per Package: 2; Input Bias Current: 300nA; Input Offset Voltage: 2mV; Iq/Amp: 5.5mA; Small Signal Bandwidth: 145MHz; V Span Max: 36V; V Span Min: 2.4V; DatasheetVersion: Rev. B; PackageVersion: 060506-A; PackageReference: R-8; PackageDescription: 8-Pin Standard Small Outline Package, Body 3.9 x 4.9 mm, Pitch 1.27 mm; Supplier 1: Digi-Key; Supplier Part Number 1: AD812ARZ-REEL-ND; Slew Rate: 425V/us; Mounting Technology: Surface Mount; Code_JEDEC: MS-012-AA; ComponentLink1Description: Manufacturer URL; ComponentLink1URL: http://www.analog.com/en/index.html; ComponentLink2Description: Datasheet; ComponentLink2URL: http://www.analog.com/static/imported-files/data_sheets/AD812.pdf; ComponentLink3Description: Package Specification; ComponentLink3URL: http://www.analog.com/static/imported-files/packages/PKG_PDF/SOIC_Narrow%20(R)/R_8.pdf
footprint ADI-R-8_N (SOIC, 8-Leads, Body 4.9x3.9mm, Pitch 1.27mm, IPC Medium Density)
footprint ADI-R-8_L (SOIC, 8-Leads, Body 4.9x3.9mm, Pitch 1.27mm, IPC High Density)
footprint ADI-R-8_M (SOIC, 8-Leads, Body 4.9x3.9mm, Pitch 1.27mm, IPC Low Density)
pins on every part: 4 -V (power), 8 +V (power)
part A pins: 1 OUT 1 (out), 2 -IN 1 (in), 3 +IN 1 (in)
part B pins: 5 +IN 2 (in), 6 -IN 2 (in), 7 OUT 2 (out)

## AD812ARZ-REEL7
designator U?
Double Channel Low Power Operational Amplifier, 145 MHz BW, 425 V/us SR, Industrial, 8-pin SOIC (R-8), Reel; Generic Part Number: AD812; Manufacturer: Analog Devices; PartNumber: AD812ARZ-REEL7; Amplifiers Per Package: 2; Input Bias Current: 300nA; Input Offset Voltage: 2mV; Iq/Amp: 5.5mA; Small Signal Bandwidth: 145MHz; V Span Max: 36V; V Span Min: 2.4V; DatasheetVersion: Rev. B; PackageVersion: 060506-A; PackageReference: R-8; PackageDescription: 8-Pin Standard Small Outline Package, Body 3.9 x 4.9 mm, Pitch 1.27 mm; Supplier 1: Digi-Key; Supplier Part Number 1: AD812ARZ-REEL7TR-ND; Supplier 2: Digi-Key; Supplier Part Number 2: AD812ARZ-REEL7CT-ND; Supplier 3: Digi-Key; Supplier Part Number 3: AD812ARZ-REEL7DKR-ND; Supplier 4: Newark; Supplier Part Number 4: 88H0173; Slew Rate: 425V/us; Mounting Technology: Surface Mount; Code_JEDEC: MS-012-AA; ComponentLink1Description: Manufacturer URL; ComponentLink1URL: http://www.analog.com/en/index.html; ComponentLink2Description: Datasheet; ComponentLink2URL: http://www.analog.com/static/imported-files/data_sheets/AD812.pdf; ComponentLink3Description: Package Specification; ComponentLink3URL: http://www.analog.com/static/imported-files/packages/PKG_PDF/SOIC_Narrow%20(R)/R_8.pdf
footprint ADI-R-8_N (SOIC, 8-Leads, Body 4.9x3.9mm, Pitch 1.27mm, IPC Medium Density)
footprint ADI-R-8_L (SOIC, 8-Leads, Body 4.9x3.9mm, Pitch 1.27mm, IPC High Density)
footprint ADI-R-8_M (SOIC, 8-Leads, Body 4.9x3.9mm, Pitch 1.27mm, IPC Low Density)
pins on every part: 4 -V (power), 8 +V (power)
part A pins: 1 OUT 1 (out), 2 -IN 1 (in), 3 +IN 1 (in)
part B pins: 5 +IN 2 (in), 6 -IN 2 (in), 7 OUT 2 (out)

## AD813ANZ
designator U?
3 Channel Low Power Operational Amplifier, 100 MHz BW, 250 V/us SR, Industrial, 14-pin DIP (N-14), Tube; Generic Part Number: AD813; Manufacturer: Analog Devices; PartNumber: AD813ANZ; Amplifiers Per Package: 3; Input Bias Current: 500nA; Input Offset Voltage: 2mV; Iq/Amp: 5.5mA; Small Signal Bandwidth: 100MHz; V Span Max: 36V; V Span Min: 2.4V; DatasheetVersion: Rev. B; PackageVersion: 070606-A; PackageReference: N-14; PackageDescription: 14-Pin Plastic Dual In-Line Package, Row spacing 7.62 mm, Pitch 2.54 mm; Supplier 1: Digi-Key; Supplier Part Number 1: AD813ANZ-ND; Supplier 2: Farnell; Supplier Part Number 2: 1079403; Supplier 3: Newark; Supplier Part Number 3: 31M4477; Supplier 4: Newark; Supplier Part Number 4: 59K6390; Slew Rate: 250V/us; Mounting Technology: Through Hole; Code_JEDEC: MS-001; ComponentLink1Description: Manufacturer URL; ComponentLink1URL: http://www.analog.com/en/index.html; ComponentLink2Description: Datasheet; ComponentLink2URL: http://www.analog.com/static/imported-files/data_sheets/AD813.pdf; ComponentLink3Description: Package Specification; ComponentLink3URL: http://www.analog.com/static/imported-files/packages/N_14.pdf
footprint ADI-N-14 (DIP, 14-Leads, Body 19.18x6.605mm, Pitch 2.54mm)
pins on every part: 4 VS+ (power), 11 VS- (power)
part A pins: 1 ~{DISABLE1} (in), 5 +IN 1 (in), 6 -IN 1 (in), 7 OUT 1 (hiz)
part B pins: 2 ~{DISABLE2} (in), 12 +IN 2 (in), 13 -IN 2 (in), 14 OUT 2 (hiz)
part C pins: 3 ~{DISABLE3} (in), 8 OUT 3 (hiz), 9 -IN 3 (in), 10 +IN 3 (in)

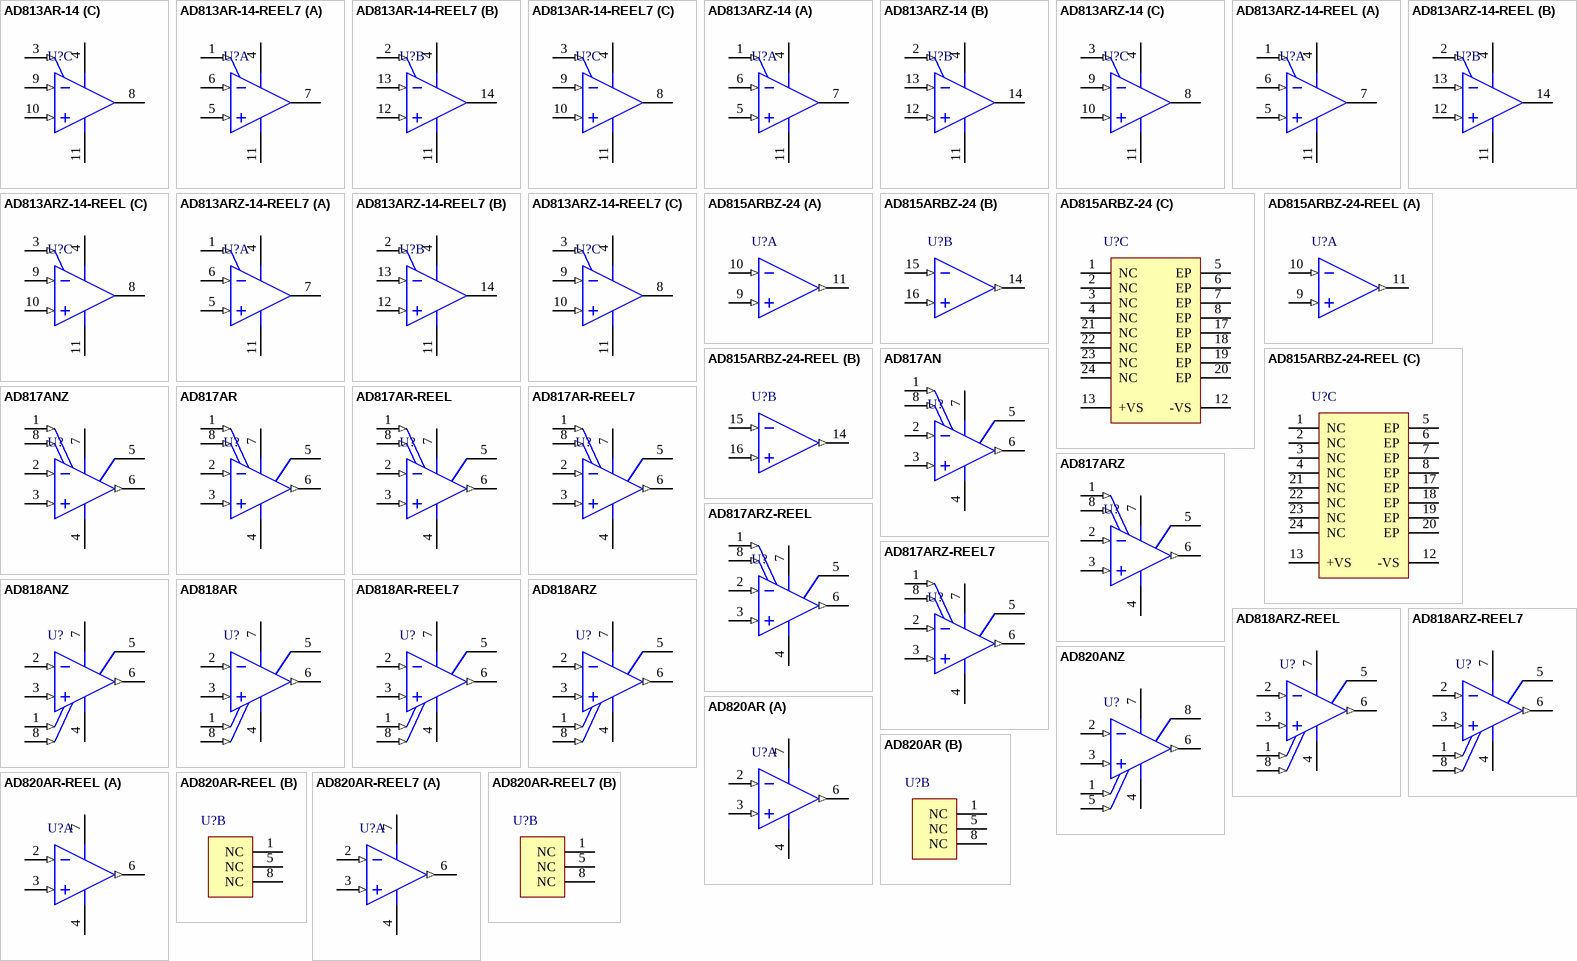
[diagram p8: symbols AD813AR-14 to AD820AR-REEL7]

## AD813AR-14
designator U?
3 Channel Low Power Operational Amplifier, 100 MHz BW, 250 V/us SR, Industrial, 14-pin SOIC (R-14), Tube; Generic Part Number: AD813; Manufacturer: Analog Devices; PartNumber: AD813AR-14; Amplifiers Per Package: 3; Input Bias Current: 500nA; Input Offset Voltage: 2mV; Iq/Amp: 5.5mA; Small Signal Bandwidth: 100MHz; V Span Max: 36V; V Span Min: 2.4V; DatasheetVersion: Rev. B; PackageVersion: 060606-A; PackageReference: R-14; PackageDescription: 14-Pin Standard Small Outline Package, Body 8.65 x 3.9 mm, Pitch 1.27 mm; Supplier 1: Digi-Key; Supplier Part Number 1: AD813AR-14-ND; Supplier 2: Newark; Supplier Part Number 2: 05F7671; Slew Rate: 250V/us; Mounting Technology: Surface Mount; Code_JEDEC: MS-012-AB; ComponentLink1Description: Manufacturer URL; ComponentLink1URL: http://www.analog.com/en/index.html; ComponentLink2Description: Datasheet; ComponentLink2URL: http://www.analog.com/static/imported-files/data_sheets/AD813.pdf; ComponentLink3Description: Package Specification; ComponentLink3URL: http://www.analog.com/static/imported-files/packages/PKG_PDF/SOIC_Narrow%20(R)/R_14.pdf
footprint ADI-R-14_N (SOIC, 14-Leads, Body 8.65x3.9mm, Pitch 1.27mm, IPC Medium Density)
footprint ADI-R-14_L (SOIC, 14-Leads, Body 8.65x3.9mm, Pitch 1.27mm, IPC High Density)
footprint ADI-R-14_M (SOIC, 14-Leads, Body 8.65x3.9mm, Pitch 1.27mm, IPC Low Density)
pins on every part: 4 VS+ (power), 11 VS- (power)
part A pins: 1 ~{DISABLE1} (in), 5 +IN 1 (in), 6 -IN 1 (in), 7 OUT 1 (hiz)
part B pins: 2 ~{DISABLE2} (in), 12 +IN 2 (in), 13 -IN 2 (in), 14 OUT 2 (hiz)
part C pins: 3 ~{DISABLE3} (in), 8 OUT 3 (hiz), 9 -IN 3 (in), 10 +IN 3 (in)

## AD813AR-14-REEL7
designator U?
3 Channel Low Power Operational Amplifier, 100 MHz BW, 250 V/us SR, Industrial, 14-pin SOIC (R-14), Reel; Generic Part Number: AD813; Manufacturer: Analog Devices; PartNumber: AD813AR-14-REEL7; Amplifiers Per Package: 3; Input Bias Current: 500nA; Input Offset Voltage: 2mV; Iq/Amp: 5.5mA; Small Signal Bandwidth: 100MHz; V Span Max: 36V; V Span Min: 2.4V; DatasheetVersion: Rev. B; PackageVersion: 060606-A; PackageReference: R-14; PackageDescription: 14-Pin Standard Small Outline Package, Body 8.65 x 3.9 mm, Pitch 1.27 mm; Supplier 1: Digi-Key; Supplier Part Number 1: AD813AR-14-REEL7-ND; Slew Rate: 250V/us; Mounting Technology: Surface Mount; Code_JEDEC: MS-012-AB; ComponentLink1Description: Manufacturer URL; ComponentLink1URL: http://www.analog.com/en/index.html; ComponentLink2Description: Datasheet; ComponentLink2URL: http://www.analog.com/static/imported-files/data_sheets/AD813.pdf; ComponentLink3Description: Package Specification; ComponentLink3URL: http://www.analog.com/static/imported-files/packages/PKG_PDF/SOIC_Narrow%20(R)/R_14.pdf
footprint ADI-R-14_N (SOIC, 14-Leads, Body 8.65x3.9mm, Pitch 1.27mm, IPC Medium Density)
footprint ADI-R-14_L (SOIC, 14-Leads, Body 8.65x3.9mm, Pitch 1.27mm, IPC High Density)
footprint ADI-R-14_M (SOIC, 14-Leads, Body 8.65x3.9mm, Pitch 1.27mm, IPC Low Density)
pins on every part: 4 VS+ (power), 11 VS- (power)
part A pins: 1 ~{DISABLE1} (in), 5 +IN 1 (in), 6 -IN 1 (in), 7 OUT 1 (hiz)
part B pins: 2 ~{DISABLE2} (in), 12 +IN 2 (in), 13 -IN 2 (in), 14 OUT 2 (hiz)
part C pins: 3 ~{DISABLE3} (in), 8 OUT 3 (hiz), 9 -IN 3 (in), 10 +IN 3 (in)

## AD813ARZ-14
designator U?
3 Channel Low Power Operational Amplifier, 100 MHz BW, 250 V/us SR, Industrial, 14-pin SOIC (R-14), Tube; Generic Part Number: AD813; Manufacturer: Analog Devices; PartNumber: AD813ARZ-14; Amplifiers Per Package: 3; Input Bias Current: 500nA; Input Offset Voltage: 2mV; Iq/Amp: 5.5mA; Small Signal Bandwidth: 100MHz; V Span Max: 36V; V Span Min: 2.4V; DatasheetVersion: Rev. B; PackageVersion: 060606-A; PackageReference: R-14; PackageDescription: 14-Pin Standard Small Outline Package, Body 8.65 x 3.9 mm, Pitch 1.27 mm; Supplier 1: Digi-Key; Supplier Part Number 1: AD813ARZ-14-ND; Slew Rate: 250V/us; Mounting Technology: Surface Mount; Code_JEDEC: MS-012-AB; ComponentLink1Description: Manufacturer URL; ComponentLink1URL: http://www.analog.com/en/index.html; ComponentLink2Description: Datasheet; ComponentLink2URL: http://www.analog.com/static/imported-files/data_sheets/AD813.pdf; ComponentLink3Description: Package Specification; ComponentLink3URL: http://www.analog.com/static/imported-files/packages/PKG_PDF/SOIC_Narrow%20(R)/R_14.pdf
footprint ADI-R-14_N (SOIC, 14-Leads, Body 8.65x3.9mm, Pitch 1.27mm, IPC Medium Density)
footprint ADI-R-14_L (SOIC, 14-Leads, Body 8.65x3.9mm, Pitch 1.27mm, IPC High Density)
footprint ADI-R-14_M (SOIC, 14-Leads, Body 8.65x3.9mm, Pitch 1.27mm, IPC Low Density)
pins on every part: 4 VS+ (power), 11 VS- (power)
part A pins: 1 ~{DISABLE1} (in), 5 +IN 1 (in), 6 -IN 1 (in), 7 OUT 1 (hiz)
part B pins: 2 ~{DISABLE2} (in), 12 +IN 2 (in), 13 -IN 2 (in), 14 OUT 2 (hiz)
part C pins: 3 ~{DISABLE3} (in), 8 OUT 3 (hiz), 9 -IN 3 (in), 10 +IN 3 (in)

## AD813ARZ-14-REEL
designator U?
3 Channel Low Power Operational Amplifier, 100 MHz BW, 250 V/us SR, Industrial, 14-pin SOIC (R-14), Reel; Generic Part Number: AD813; Manufacturer: Analog Devices; PartNumber: AD813ARZ-14-REEL; Amplifiers Per Package: 3; Input Bias Current: 500nA; Input Offset Voltage: 2mV; Iq/Amp: 5.5mA; Small Signal Bandwidth: 100MHz; V Span Max: 36V; V Span Min: 2.4V; DatasheetVersion: Rev. B; PackageVersion: 060606-A; PackageReference: R-14; PackageDescription: 14-Pin Standard Small Outline Package, Body 8.65 x 3.9 mm, Pitch 1.27 mm; Supplier 1: Digi-Key; Supplier Part Number 1: AD813ARZ-14-REEL-ND; Slew Rate: 250V/us; Mounting Technology: Surface Mount; Code_JEDEC: MS-012-AB; ComponentLink1Description: Manufacturer URL; ComponentLink1URL: http://www.analog.com/en/index.html; ComponentLink2Description: Datasheet; ComponentLink2URL: http://www.analog.com/static/imported-files/data_sheets/AD813.pdf; ComponentLink3Description: Package Specification; ComponentLink3URL: http://www.analog.com/static/imported-files/packages/PKG_PDF/SOIC_Narrow%20(R)/R_14.pdf
footprint ADI-R-14_N (SOIC, 14-Leads, Body 8.65x3.9mm, Pitch 1.27mm, IPC Medium Density)
footprint ADI-R-14_L (SOIC, 14-Leads, Body 8.65x3.9mm, Pitch 1.27mm, IPC High Density)
footprint ADI-R-14_M (SOIC, 14-Leads, Body 8.65x3.9mm, Pitch 1.27mm, IPC Low Density)
pins on every part: 4 VS+ (power), 11 VS- (power)
part A pins: 1 ~{DISABLE1} (in), 5 +IN 1 (in), 6 -IN 1 (in), 7 OUT 1 (hiz)
part B pins: 2 ~{DISABLE2} (in), 12 +IN 2 (in), 13 -IN 2 (in), 14 OUT 2 (hiz)
part C pins: 3 ~{DISABLE3} (in), 8 OUT 3 (hiz), 9 -IN 3 (in), 10 +IN 3 (in)

## AD813ARZ-14-REEL7
designator U?
3 Channel Low Power Operational Amplifier, 100 MHz BW, 250 V/us SR, Industrial, 14-pin SOIC (R-14), Reel; Generic Part Number: AD813; Manufacturer: Analog Devices; PartNumber: AD813ARZ-14-REEL7; Amplifiers Per Package: 3; Input Bias Current: 500nA; Input Offset Voltage: 2mV; Iq/Amp: 5.5mA; Small Signal Bandwidth: 100MHz; V Span Max: 36V; V Span Min: 2.4V; DatasheetVersion: Rev. B; PackageVersion: 060606-A; PackageReference: R-14; PackageDescription: 14-Pin Standard Small Outline Package, Body 8.65 x 3.9 mm, Pitch 1.27 mm; Supplier 1: Digi-Key; Supplier Part Number 1: AD813ARZ-14-REEL7-ND; Slew Rate: 250V/us; Mounting Technology: Surface Mount; Code_JEDEC: MS-012-AB; ComponentLink1Description: Manufacturer URL; ComponentLink1URL: http://www.analog.com/en/index.html; ComponentLink2Description: Datasheet; ComponentLink2URL: http://www.analog.com/static/imported-files/data_sheets/AD813.pdf; ComponentLink3Description: Package Specification; ComponentLink3URL: http://www.analog.com/static/imported-files/packages/PKG_PDF/SOIC_Narrow%20(R)/R_14.pdf
footprint ADI-R-14_N (SOIC, 14-Leads, Body 8.65x3.9mm, Pitch 1.27mm, IPC Medium Density)
footprint ADI-R-14_L (SOIC, 14-Leads, Body 8.65x3.9mm, Pitch 1.27mm, IPC High Density)
footprint ADI-R-14_M (SOIC, 14-Leads, Body 8.65x3.9mm, Pitch 1.27mm, IPC Low Density)
pins on every part: 4 VS+ (power), 11 VS- (power)
part A pins: 1 ~{DISABLE1} (in), 5 +IN 1 (in), 6 -IN 1 (in), 7 OUT 1 (hiz)
part B pins: 2 ~{DISABLE2} (in), 12 +IN 2 (in), 13 -IN 2 (in), 14 OUT 2 (hiz)
part C pins: 3 ~{DISABLE3} (in), 8 OUT 3 (hiz), 9 -IN 3 (in), 10 +IN 3 (in)

## AD815ARBZ-24
designator U?
Double Channel Low Distortion Operational Amplifier, 120 MHz BW, 900 V/us SR, Industrial, 24-pin SOIC (RB-24), Tube; Generic Part Number: AD815; Manufacturer: Analog Devices; PartNumber: AD815ARBZ-24; Amplifiers Per Package: 2; Input Bias Current: 2uA; Input Offset Voltage: 10mV; Iq/Amp: 40mA; Small Signal Bandwidth: 120MHz; V Span Max: 36V; V Span Min: 10V; DatasheetVersion: Rev. C; PackageReference: RB-24; PackageDescription: 24-Pin Batwing SOIC, Thermally Enhanced with Fused Leads, Body 15.4 x 7.5 mm, Pitch 1.27 mm; Slew Rate: 900V/us; Mounting Technology: Surface Mount; Code_JEDEC: MS-013-AD; ComponentLink1Description: Manufacturer URL; ComponentLink1URL: http://www.analog.com/en/index.html; ComponentLink2Description: Datasheet; ComponentLink2URL: http://www.analog.com/static/imported-files/data_sheets/AD815.pdf; ComponentLink3Description: Package Specification; ComponentLink3URL: http://www.analog.com/static/imported-files/packages/479743993852630252966076RB_24.pdf
footprint ADI-RB-24_N (SOIC, 24-Leads, Body 15.4x7.5mm, Pitch 1.27mm, IPC Medium Density)
footprint ADI-RB-24_L (SOIC, 24-Leads, Body 15.4x7.5mm, Pitch 1.27mm, IPC High Density)
footprint ADI-RB-24_M (SOIC, 24-Leads, Body 15.4x7.5mm, Pitch 1.27mm, IPC Low Density)
part A pins: 9 +IN 1 (in), 10 -IN 1 (in), 11 OUT 1 (out)
part B pins: 14 OUT 2 (out), 15 -IN 2 (in), 16 +IN 2 (in)
part C pins: 1 NC "NO CONNECT", 2 NC "NO CONNECT", 3 NC "NO CONNECT", 4 NC "NO CONNECT", 5 EP (power) "HEAT TABS ARE CONNECTED TO THE POSITIVE SUPPLY.", 6 EP (power) "HEAT TABS ARE CONNECTED TO THE POSITIVE SUPPLY.", 7 EP (power) "HEAT TABS ARE CONNECTED TO THE POSITIVE SUPPLY.", 8 EP (power) "HEAT TABS ARE CONNECTED TO THE POSITIVE SUPPLY.", 12 -VS (power), 13 +VS (power), 17 EP (power) "HEAT TABS ARE CONNECTED TO THE POSITIVE SUPPLY.", 18 EP (power) "HEAT TABS ARE CONNECTED TO THE POSITIVE SUPPLY.", 19 EP (power) "HEAT TABS ARE CONNECTED TO THE POSITIVE SUPPLY.", 20 EP (power) "HEAT TABS ARE CONNECTED TO THE POSITIVE SUPPLY.", 21 NC "NO CONNECT", 22 NC "NO CONNECT", 23 NC "NO CONNECT", 24 NC "NO CONNECT"

## AD815ARBZ-24-REEL
designator U?
Double Channel Low Distortion Operational Amplifier, 120 MHz BW, 900 V/us SR, Industrial, 24-pin SOIC (RB-24), Reel; Generic Part Number: AD815; Manufacturer: Analog Devices; PartNumber: AD815ARBZ-24-REEL; Amplifiers Per Package: 2; Input Bias Current: 2uA; Input Offset Voltage: 10mV; Iq/Amp: 40mA; Small Signal Bandwidth: 120MHz; V Span Max: 36V; V Span Min: 10V; DatasheetVersion: Rev. C; PackageReference: RB-24; PackageDescription: 24-Pin Batwing SOIC, Thermally Enhanced with Fused Leads, Body 15.4 x 7.5 mm, Pitch 1.27 mm; Slew Rate: 900V/us; Mounting Technology: Surface Mount; Code_JEDEC: MS-013-AD; ComponentLink1Description: Manufacturer URL; ComponentLink1URL: http://www.analog.com/en/index.html; ComponentLink2Description: Datasheet; ComponentLink2URL: http://www.analog.com/static/imported-files/data_sheets/AD815.pdf; ComponentLink3Description: Package Specification; ComponentLink3URL: http://www.analog.com/static/imported-files/packages/479743993852630252966076RB_24.pdf
footprint ADI-RB-24_N (SOIC, 24-Leads, Body 15.4x7.5mm, Pitch 1.27mm, IPC Medium Density)
footprint ADI-RB-24_L (SOIC, 24-Leads, Body 15.4x7.5mm, Pitch 1.27mm, IPC High Density)
footprint ADI-RB-24_M (SOIC, 24-Leads, Body 15.4x7.5mm, Pitch 1.27mm, IPC Low Density)
part A pins: 9 +IN 1 (in), 10 -IN 1 (in), 11 OUT 1 (out)
part B pins: 14 OUT 2 (out), 15 -IN 2 (in), 16 +IN 2 (in)
part C pins: 1 NC "NO CONNECT", 2 NC "NO CONNECT", 3 NC "NO CONNECT", 4 NC "NO CONNECT", 5 EP (power) "HEAT TABS ARE CONNECTED TO THE POSITIVE SUPPLY.", 6 EP (power) "HEAT TABS ARE CONNECTED TO THE POSITIVE SUPPLY.", 7 EP (power) "HEAT TABS ARE CONNECTED TO THE POSITIVE SUPPLY.", 8 EP (power) "HEAT TABS ARE CONNECTED TO THE POSITIVE SUPPLY.", 12 -VS (power), 13 +VS (power), 17 EP (power) "HEAT TABS ARE CONNECTED TO THE POSITIVE SUPPLY.", 18 EP (power) "HEAT TABS ARE CONNECTED TO THE POSITIVE SUPPLY.", 19 EP (power) "HEAT TABS ARE CONNECTED TO THE POSITIVE SUPPLY.", 20 EP (power) "HEAT TABS ARE CONNECTED TO THE POSITIVE SUPPLY.", 21 NC "NO CONNECT", 22 NC "NO CONNECT", 23 NC "NO CONNECT", 24 NC "NO CONNECT"

## AD817AN
designator U?
Single Channel Low Power Operational Amplifier, 50 MHz BW, 350 V/us SR, Industrial, 8-pin DIP (N-8), Tube; Generic Part Number: AD817; Manufacturer: Analog Devices; PartNumber: AD817AN; Amplifiers Per Package: 1; Input Bias Current: 3.3uA; Input Offset Voltage: 500uV; Iq/Amp: 7.5mA; Small Signal Bandwidth: 50MHz; V Span Max: 36V; V Span Min: 5V; DatasheetVersion: Rev. B; PackageVersion: 070606-A; PackageReference: N-8; PackageDescription: 8-Pin Plastic Dual In-Line Package, Row spacing 7.62 mm, Pitch 2.54 mm; Supplier 1: Digi-Key; Supplier Part Number 1: AD817AN-ND; Slew Rate: 350V/us; Mounting Technology: Through Hole; Code_JEDEC: MS-001; ComponentLink1Description: Manufacturer URL; ComponentLink1URL: http://www.analog.com/en/index.html; ComponentLink2Description: Datasheet; ComponentLink2URL: http://www.analog.com/static/imported-files/data_sheets/AD817.pdf; ComponentLink3Description: Package Specification; ComponentLink3URL: http:/www.analog.com/static/imported-files/packages/PKG_PDF/PDIP(N)/N_8.pdf
footprint ADI-N-8 (DIP, 8-Leads, Body 9.59x6.6mm, Pitch 2.54mm)
pins: 1 NULL (in), 2 -IN (in), 3 +IN (in), 4 -VS (power), 5 NC, 6 OUT (out), 7 +VS (power), 8 NULL (in)